# EAGLE library part SHF-105-01-L-D-SM-LC (library con-samtec)
CONN HEADER SMD 10POS 1.27MM
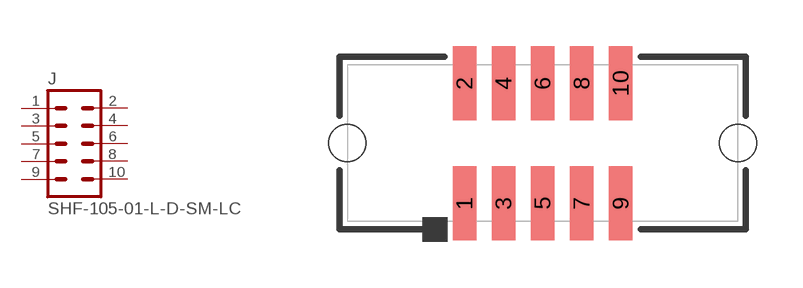
[diagram p30: symbol with the pads of SHF-105-01-L-D-SM-LC; footprint SHF-105-01-L-D-SM-LC]

Designator prefix J

## SHF-105-01-L-D-SM-LC  [SHF-105-01-L-D-SM-LC]
1  1  pas
2  2  pas
3  3  pas
4  4  pas
5  5  pas
6  6  pas
7  7  pas
8  8  pas
9  9  pas
10  10  pas

## Footprint SHF-105-01-L-D-SM-LC (pad centres in mm)
Connector Header 10 position 0.050" (1.27mm)
smd 0.76 x 2.4: 1 -2.54,-1.95; 2 -2.54,1.95; 3 -1.27,-1.95; 4 -1.27,1.95; 5 0,-1.95; 6 0,1.95; 7 1.27,-1.95; 8 1.27,1.95; 9 2.54,-1.95; 10 2.54,1.95
hole 1.194 at -6.35,0
hole 1.194 at 6.35,0